# EAGLE library part GKICD02 (library 029000100  -  gKEagleLibrary)
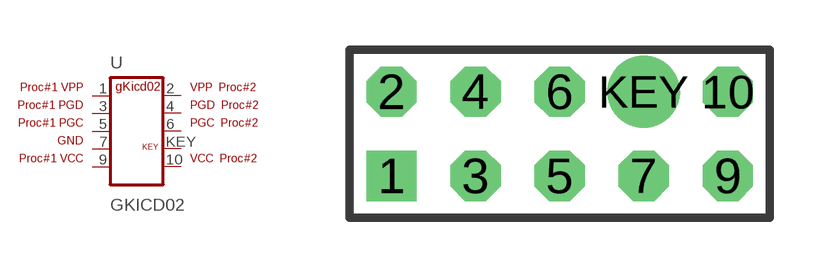
[diagram p0: symbol with the pads of GKICD02; footprint GKICD02]

Designator prefix -

## GKICD02  [GKICD02]
1  VPP1  pas
2  VPP2  pas
3  PGD1  pas
4  PGD2  pas
5  PGC1  pas
6  PGC2  pas
7  GND  pwr
9  VCC1  pwr
10  VCC2  pwr
KEY  KEY  nc

## Footprint GKICD02 (pad centres in mm)
drill 1.016 square: 1 1.27,1.27
drill 1.016 octagon: 2 1.27,3.81; 3 3.81,1.27; 4 3.81,3.81; 5 6.35,1.27; 6 6.35,3.81; 7 8.89,1.27; 9 11.43,1.27; 10 11.43,3.81
drill 1.016 pad 2.184: KEY 8.89,3.81